# Altium footprint library Connector_Samtec_HLE_SMD.PcbLib: 290 footprints (part 12 of 24)
Each footprint in its own frame and in the unit in brackets; x right, y up, seen from the top. Pads: shape width x height; smd on the part's side, far side on the other; paste and mask are expansions set on the pad; w line width, h text height; cw(c..) or ccw(c..) is an arc to the next point about the centre after c.
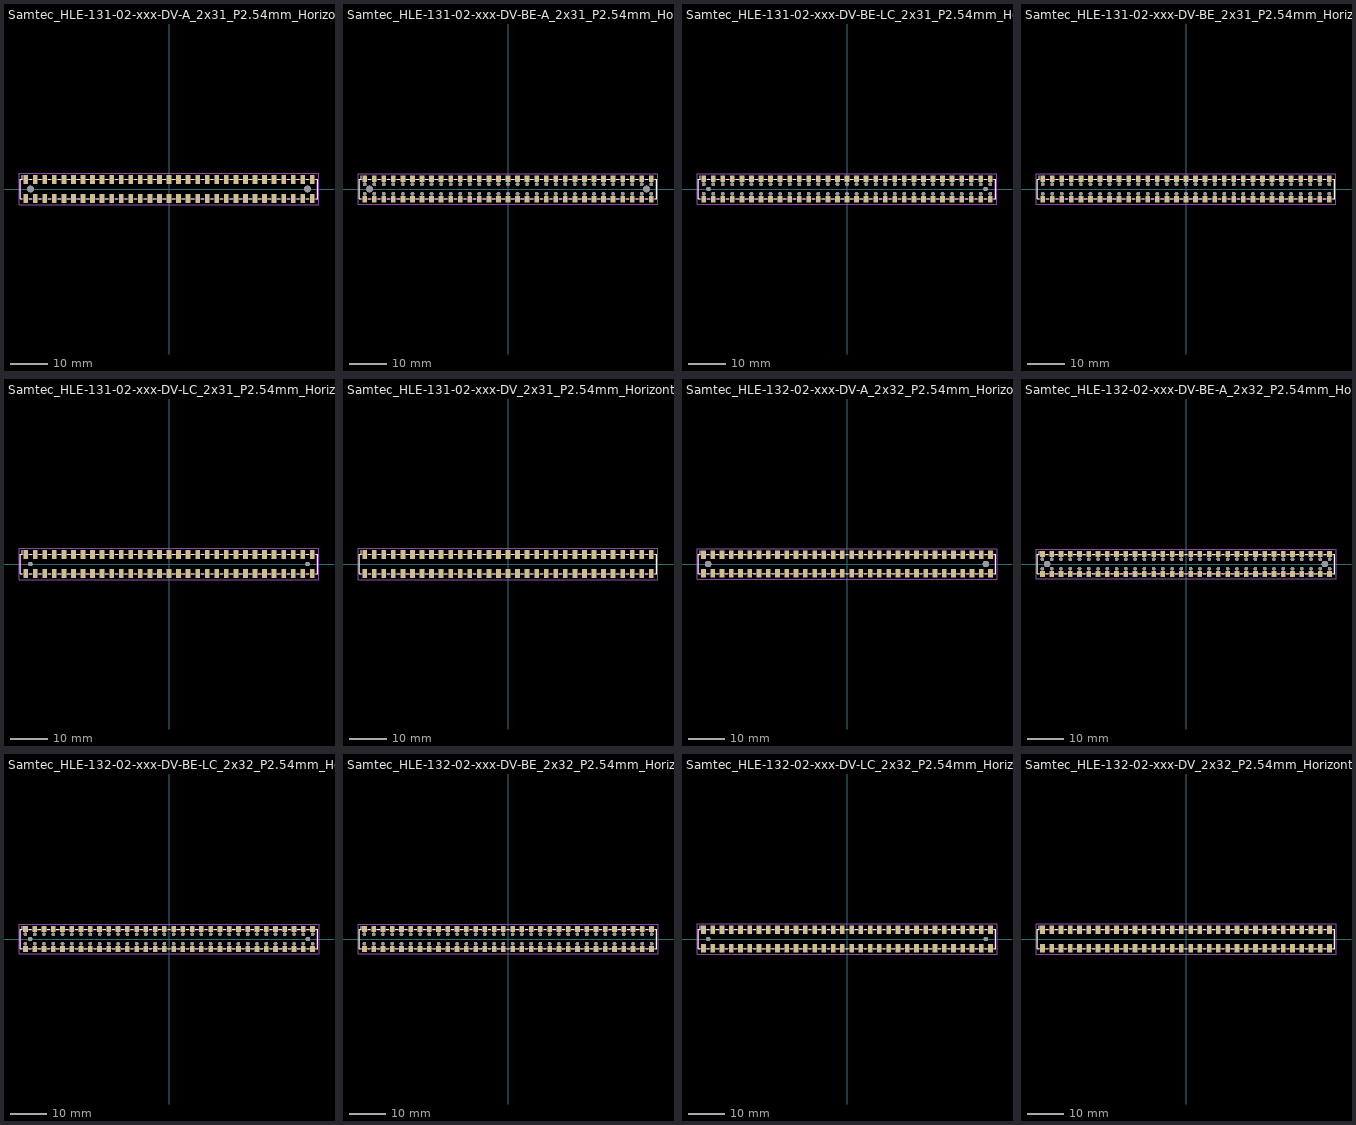
[diagram p11: the footprints below, top view; thin cyan lines are the x and y axes]

## Samtec_HLE-131-02-xxx-DV-A_2x31_P2.54mm_Horizontal [mm]
pads (64):
  rect 1.27x2.29 smd: 1(-38.1,2.525) 2(-38.1,-2.525) 3(-35.56,2.525) 4(-35.56,-2.525) 5(-33.02,2.525) 6(-33.02,-2.525) 7(-30.48,2.525) 8(-30.48,-2.525) 9(-27.94,2.525) 10(-27.94,-2.525) 11(-25.4,2.525) 12(-25.4,-2.525) 13(-22.86,2.525) 14(-22.86,-2.525) 15(-20.32,2.525) 16(-20.32,-2.525) 17(-17.78,2.525) 18(-17.78,-2.525) 19(-15.24,2.525) 20(-15.24,-2.525) 21(-12.7,2.525) 22(-12.7,-2.525) 23(-10.16,2.525) 24(-10.16,-2.525) 25(-7.62,2.525) 26(-7.62,-2.525) 27(-5.08,2.525) 28(-5.08,-2.525) 29(-2.54,2.525) 30(-2.54,-2.525) 31(0,2.525) 32(0,-2.525) 33(2.54,2.525) 34(2.54,-2.525) 35(5.08,2.525) 36(5.08,-2.525) 37(7.62,2.525) 38(7.62,-2.525) 39(10.16,2.525) 40(10.16,-2.525) 41(12.7,2.525) 42(12.7,-2.525) 43(15.24,2.525) 44(15.24,-2.525) 45(17.78,2.525) 46(17.78,-2.525) 47(20.32,2.525) 48(20.32,-2.525) 49(22.86,2.525) 50(22.86,-2.525) 51(25.4,2.525) 52(25.4,-2.525) 53(27.94,2.525) 54(27.94,-2.525) 55(30.48,2.525) 56(30.48,-2.525) 57(33.02,2.525) 58(33.02,-2.525) 59(35.56,2.525) 60(35.56,-2.525) 61(38.1,2.525) 62(38.1,-2.525)
  round 1.78 hole 1.78: Un1(-36.83,0) Un2(36.83,0)
F.SilkS:
  lines w0.254: -38.995,-2.65 -39.48,-2.65 -39.48,2.65 -38.995,2.65 -38.995,3.67 ; -37.205,-2.65 -36.455,-2.65 ; -37.205,2.65 -36.455,2.65 ; -34.665,-2.65 -33.915,-2.65 ; -34.665,2.65 -33.915,2.65 ; -32.125,-2.65 -31.375,-2.65 ; -32.125,2.65 -31.375,2.65 ; -29.585,-2.65 -28.835,-2.65 ; -29.585,2.65 -28.835,2.65 ; -27.045,-2.65 -26.295,-2.65 ; -27.045,2.65 -26.295,2.65 ; -24.505,-2.65 -23.755,-2.65 ; -24.505,2.65 -23.755,2.65 ; -21.965,-2.65 -21.215,-2.65 ; -21.965,2.65 -21.215,2.65 ; -19.425,-2.65 -18.675,-2.65 ; -19.425,2.65 -18.675,2.65 ; -16.885,-2.65 -16.135,-2.65 ; -16.885,2.65 -16.135,2.65 ; -14.345,-2.65 -13.595,-2.65 ; -14.345,2.65 -13.595,2.65 ; -11.805,-2.65 -11.055,-2.65 ; -11.805,2.65 -11.055,2.65 ; -9.265,-2.65 -8.515,-2.65 ; -9.265,2.65 -8.515,2.65 ; -6.725,-2.65 -5.975,-2.65 ; -6.725,2.65 -5.975,2.65 ; -4.185,-2.65 -3.435,-2.65 ; -4.185,2.65 -3.435,2.65 ; -1.645,-2.65 -0.895,-2.65 ; -1.645,2.65 -0.895,2.65 ; 0.895,-2.65 1.645,-2.65 ; 0.895,2.65 1.645,2.65 ; 3.435,-2.65 4.185,-2.65 ; 3.435,2.65 4.185,2.65 ; 5.975,-2.65 6.725,-2.65 ; 5.975,2.65 6.725,2.65 ; 8.515,-2.65 9.265,-2.65 ; 8.515,2.65 9.265,2.65 ; 11.055,-2.65 11.805,-2.65 ; 11.055,2.65 11.805,2.65 ; 13.595,-2.65 14.345,-2.65 ; 13.595,2.65 14.345,2.65 ; 16.135,-2.65 16.885,-2.65 ; 16.135,2.65 16.885,2.65 ; 18.675,-2.65 19.425,-2.65 ; 18.675,2.65 19.425,2.65 ; 21.215,-2.65 21.965,-2.65 ; 21.215,2.65 21.965,2.65 ; 23.755,-2.65 24.505,-2.65 ; 23.755,2.65 24.505,2.65 ; 26.295,-2.65 27.045,-2.65 ; 26.295,2.65 27.045,2.65 ; 28.835,-2.65 29.585,-2.65 ; 28.835,2.65 29.585,2.65 ; 31.375,-2.65 32.125,-2.65 ; 31.375,2.65 32.125,2.65 ; 33.915,-2.65 34.665,-2.65 ; 33.915,2.65 34.665,2.65 ; 36.455,-2.65 37.205,-2.65 ; 36.455,2.65 37.205,2.65 ; 38.995,-2.65 39.48,-2.65 39.48,2.65 38.995,2.65
Top Assembly:
  lines w0.254: -38.6,2.54 -38.1,1.833 -37.6,2.54 ; -39.37,-2.54 39.37,-2.54 39.37,2.54 -39.37,2.54 -39.37,-2.54
  text "'.Designator'" at -4.047,-2.68 h1
Top Courtyard:
  lines w0.254: -39.87,-4.17 39.87,-4.17 39.87,4.17 -39.87,4.17 -39.87,-4.17
Top Designator:
  text ".Designator" at -7.618,-0.508 h1.52

## Samtec_HLE-131-02-xxx-DV-BE-A_2x31_P2.54mm_Horizontal [mm]
pads (126):
  rect 1.27x1.68 smd: 1(-38.1,2.72) 2(-38.1,-2.72) 3(-35.56,2.72) 4(-35.56,-2.72) 5(-33.02,2.72) 6(-33.02,-2.72) 7(-30.48,2.72) 8(-30.48,-2.72) 9(-27.94,2.72) 10(-27.94,-2.72) 11(-25.4,2.72) 12(-25.4,-2.72) 13(-22.86,2.72) 14(-22.86,-2.72) 15(-20.32,2.72) 16(-20.32,-2.72) 17(-17.78,2.72) 18(-17.78,-2.72) 19(-15.24,2.72) 20(-15.24,-2.72) 21(-12.7,2.72) 22(-12.7,-2.72) 23(-10.16,2.72) 24(-10.16,-2.72) 25(-7.62,2.72) 26(-7.62,-2.72) 27(-5.08,2.72) 28(-5.08,-2.72) 29(-2.54,2.72) 30(-2.54,-2.72) 31(0,2.72) 32(0,-2.72) 33(2.54,2.72) 34(2.54,-2.72) 35(5.08,2.72) 36(5.08,-2.72) 37(7.62,2.72) 38(7.62,-2.72) 39(10.16,2.72) 40(10.16,-2.72) 41(12.7,2.72) 42(12.7,-2.72) 43(15.24,2.72) 44(15.24,-2.72) 45(17.78,2.72) 46(17.78,-2.72) 47(20.32,2.72) 48(20.32,-2.72) 49(22.86,2.72) 50(22.86,-2.72) 51(25.4,2.72) 52(25.4,-2.72) 53(27.94,2.72) 54(27.94,-2.72) 55(30.48,2.72) 56(30.48,-2.72) 57(33.02,2.72) 58(33.02,-2.72) 59(35.56,2.72) 60(35.56,-2.72) 61(38.1,2.72) 62(38.1,-2.72)
  round 0.97 hole 0.97: Un1(-38.1,1.27) Un2(-38.1,-1.27) Un4(-35.56,1.27) Un5(-35.56,-1.27) Un6(-33.02,1.27) Un7(-33.02,-1.27) Un8(-30.48,1.27) Un9(-30.48,-1.27) Un10(-27.94,1.27) Un11(-27.94,-1.27) Un12(-25.4,1.27) Un13(-25.4,-1.27) Un14(-22.86,1.27) Un15(-22.86,-1.27) Un16(-20.32,1.27) Un17(-20.32,-1.27) Un18(-17.78,1.27) Un19(-17.78,-1.27) Un20(-15.24,1.27) Un21(-15.24,-1.27) Un22(-12.7,1.27) Un23(-12.7,-1.27) Un24(-10.16,1.27) Un25(-10.16,-1.27) Un26(-7.62,1.27) Un27(-7.62,-1.27) Un28(-5.08,1.27) Un29(-5.08,-1.27) Un30(-2.54,1.27) Un31(-2.54,-1.27) Un32(0,1.27) Un33(0,-1.27) Un34(2.54,1.27) Un35(2.54,-1.27) Un36(5.08,1.27) Un37(5.08,-1.27) Un38(7.62,1.27) Un39(7.62,-1.27) Un40(10.16,1.27) Un41(10.16,-1.27) Un42(12.7,1.27) Un43(12.7,-1.27) Un44(15.24,1.27) Un45(15.24,-1.27) Un46(17.78,1.27) Un47(17.78,-1.27) Un48(20.32,1.27) Un49(20.32,-1.27) Un50(22.86,1.27) Un51(22.86,-1.27) Un52(25.4,1.27) Un53(25.4,-1.27) Un54(27.94,1.27) Un55(27.94,-1.27) Un56(30.48,1.27) Un57(30.48,-1.27) Un58(33.02,1.27) Un59(33.02,-1.27) Un60(35.56,1.27) Un61(35.56,-1.27) Un63(38.1,1.27) Un64(38.1,-1.27)
  round 1.78 hole 1.78: Un3(-36.83,0) Un62(36.83,0)
F.SilkS:
  lines w0.254: -38.995,-2.65 -39.48,-2.65 -39.48,2.65 -38.995,2.65 -38.995,3.56 ; -37.205,-2.65 -36.455,-2.65 ; -37.205,2.65 -36.455,2.65 ; -34.665,-2.65 -33.915,-2.65 ; -34.665,2.65 -33.915,2.65 ; -32.125,-2.65 -31.375,-2.65 ; -32.125,2.65 -31.375,2.65 ; -29.585,-2.65 -28.835,-2.65 ; -29.585,2.65 -28.835,2.65 ; -27.045,-2.65 -26.295,-2.65 ; -27.045,2.65 -26.295,2.65 ; -24.505,-2.65 -23.755,-2.65 ; -24.505,2.65 -23.755,2.65 ; -21.965,-2.65 -21.215,-2.65 ; -21.965,2.65 -21.215,2.65 ; -19.425,-2.65 -18.675,-2.65 ; -19.425,2.65 -18.675,2.65 ; -16.885,-2.65 -16.135,-2.65 ; -16.885,2.65 -16.135,2.65 ; -14.345,-2.65 -13.595,-2.65 ; -14.345,2.65 -13.595,2.65 ; -11.805,-2.65 -11.055,-2.65 ; -11.805,2.65 -11.055,2.65 ; -9.265,-2.65 -8.515,-2.65 ; -9.265,2.65 -8.515,2.65 ; -6.725,-2.65 -5.975,-2.65 ; -6.725,2.65 -5.975,2.65 ; -4.185,-2.65 -3.435,-2.65 ; -4.185,2.65 -3.435,2.65 ; -1.645,-2.65 -0.895,-2.65 ; -1.645,2.65 -0.895,2.65 ; 0.895,-2.65 1.645,-2.65 ; 0.895,2.65 1.645,2.65 ; 3.435,-2.65 4.185,-2.65 ; 3.435,2.65 4.185,2.65 ; 5.975,-2.65 6.725,-2.65 ; 5.975,2.65 6.725,2.65 ; 8.515,-2.65 9.265,-2.65 ; 8.515,2.65 9.265,2.65 ; 11.055,-2.65 11.805,-2.65 ; 11.055,2.65 11.805,2.65 ; 13.595,-2.65 14.345,-2.65 ; 13.595,2.65 14.345,2.65 ; 16.135,-2.65 16.885,-2.65 ; 16.135,2.65 16.885,2.65 ; 18.675,-2.65 19.425,-2.65 ; 18.675,2.65 19.425,2.65 ; 21.215,-2.65 21.965,-2.65 ; 21.215,2.65 21.965,2.65 ; 23.755,-2.65 24.505,-2.65 ; 23.755,2.65 24.505,2.65 ; 26.295,-2.65 27.045,-2.65 ; 26.295,2.65 27.045,2.65 ; 28.835,-2.65 29.585,-2.65 ; 28.835,2.65 29.585,2.65 ; 31.375,-2.65 32.125,-2.65 ; 31.375,2.65 32.125,2.65 ; 33.915,-2.65 34.665,-2.65 ; 33.915,2.65 34.665,2.65 ; 36.455,-2.65 37.205,-2.65 ; 36.455,2.65 37.205,2.65 ; 38.995,-2.65 39.48,-2.65 39.48,2.65 38.995,2.65
Top Assembly:
  lines w0.254: -38.6,2.54 -38.1,1.833 -37.6,2.54 ; -39.37,-2.54 39.37,-2.54 39.37,2.54 -39.37,2.54 -39.37,-2.54
  text "'.Designator'" at -4.047,-2.68 h1
Top Courtyard:
  lines w0.254: -39.87,-4.07 39.87,-4.07 39.87,4.07 -39.87,4.07 -39.87,-4.07
Top Designator:
  text ".Designator" at -7.618,-0.508 h1.52

## Samtec_HLE-131-02-xxx-DV-BE-LC_2x31_P2.54mm_Horizontal [mm]
pads (126):
  rect 1.27x1.68 smd: 1(-38.1,2.72) 2(-38.1,-2.72) 3(-35.56,2.72) 4(-35.56,-2.72) 5(-33.02,2.72) 6(-33.02,-2.72) 7(-30.48,2.72) 8(-30.48,-2.72) 9(-27.94,2.72) 10(-27.94,-2.72) 11(-25.4,2.72) 12(-25.4,-2.72) 13(-22.86,2.72) 14(-22.86,-2.72) 15(-20.32,2.72) 16(-20.32,-2.72) 17(-17.78,2.72) 18(-17.78,-2.72) 19(-15.24,2.72) 20(-15.24,-2.72) 21(-12.7,2.72) 22(-12.7,-2.72) 23(-10.16,2.72) 24(-10.16,-2.72) 25(-7.62,2.72) 26(-7.62,-2.72) 27(-5.08,2.72) 28(-5.08,-2.72) 29(-2.54,2.72) 30(-2.54,-2.72) 31(0,2.72) 32(0,-2.72) 33(2.54,2.72) 34(2.54,-2.72) 35(5.08,2.72) 36(5.08,-2.72) 37(7.62,2.72) 38(7.62,-2.72) 39(10.16,2.72) 40(10.16,-2.72) 41(12.7,2.72) 42(12.7,-2.72) 43(15.24,2.72) 44(15.24,-2.72) 45(17.78,2.72) 46(17.78,-2.72) 47(20.32,2.72) 48(20.32,-2.72) 49(22.86,2.72) 50(22.86,-2.72) 51(25.4,2.72) 52(25.4,-2.72) 53(27.94,2.72) 54(27.94,-2.72) 55(30.48,2.72) 56(30.48,-2.72) 57(33.02,2.72) 58(33.02,-2.72) 59(35.56,2.72) 60(35.56,-2.72) 61(38.1,2.72) 62(38.1,-2.72)
  round 0.97 hole 0.97: Un1(-38.1,1.27) Un2(-38.1,-1.27) Un4(-35.56,1.27) Un5(-35.56,-1.27) Un6(-33.02,1.27) Un7(-33.02,-1.27) Un8(-30.48,1.27) Un9(-30.48,-1.27) Un10(-27.94,1.27) Un11(-27.94,-1.27) Un12(-25.4,1.27) Un13(-25.4,-1.27) Un14(-22.86,1.27) Un15(-22.86,-1.27) Un16(-20.32,1.27) Un17(-20.32,-1.27) Un18(-17.78,1.27) Un19(-17.78,-1.27) Un20(-15.24,1.27) Un21(-15.24,-1.27) Un22(-12.7,1.27) Un23(-12.7,-1.27) Un24(-10.16,1.27) Un25(-10.16,-1.27) Un26(-7.62,1.27) Un27(-7.62,-1.27) Un28(-5.08,1.27) Un29(-5.08,-1.27) Un30(-2.54,1.27) Un31(-2.54,-1.27) Un32(0,1.27) Un33(0,-1.27) Un34(2.54,1.27) Un35(2.54,-1.27) Un36(5.08,1.27) Un37(5.08,-1.27) Un38(7.62,1.27) Un39(7.62,-1.27) Un40(10.16,1.27) Un41(10.16,-1.27) Un42(12.7,1.27) Un43(12.7,-1.27) Un44(15.24,1.27) Un45(15.24,-1.27) Un46(17.78,1.27) Un47(17.78,-1.27) Un48(20.32,1.27) Un49(20.32,-1.27) Un50(22.86,1.27) Un51(22.86,-1.27) Un52(25.4,1.27) Un53(25.4,-1.27) Un54(27.94,1.27) Un55(27.94,-1.27) Un56(30.48,1.27) Un57(30.48,-1.27) Un58(33.02,1.27) Un59(33.02,-1.27) Un60(35.56,1.27) Un61(35.56,-1.27) Un63(38.1,1.27) Un64(38.1,-1.27)
  round 1.19 hole 1.19: Un3(-36.83,0) Un62(36.83,0)
F.SilkS:
  lines w0.254: -38.995,-2.65 -39.48,-2.65 -39.48,2.65 -38.995,2.65 -38.995,3.56 ; -37.205,-2.65 -36.455,-2.65 ; -37.205,2.65 -36.455,2.65 ; -34.665,-2.65 -33.915,-2.65 ; -34.665,2.65 -33.915,2.65 ; -32.125,-2.65 -31.375,-2.65 ; -32.125,2.65 -31.375,2.65 ; -29.585,-2.65 -28.835,-2.65 ; -29.585,2.65 -28.835,2.65 ; -27.045,-2.65 -26.295,-2.65 ; -27.045,2.65 -26.295,2.65 ; -24.505,-2.65 -23.755,-2.65 ; -24.505,2.65 -23.755,2.65 ; -21.965,-2.65 -21.215,-2.65 ; -21.965,2.65 -21.215,2.65 ; -19.425,-2.65 -18.675,-2.65 ; -19.425,2.65 -18.675,2.65 ; -16.885,-2.65 -16.135,-2.65 ; -16.885,2.65 -16.135,2.65 ; -14.345,-2.65 -13.595,-2.65 ; -14.345,2.65 -13.595,2.65 ; -11.805,-2.65 -11.055,-2.65 ; -11.805,2.65 -11.055,2.65 ; -9.265,-2.65 -8.515,-2.65 ; -9.265,2.65 -8.515,2.65 ; -6.725,-2.65 -5.975,-2.65 ; -6.725,2.65 -5.975,2.65 ; -4.185,-2.65 -3.435,-2.65 ; -4.185,2.65 -3.435,2.65 ; -1.645,-2.65 -0.895,-2.65 ; -1.645,2.65 -0.895,2.65 ; 0.895,-2.65 1.645,-2.65 ; 0.895,2.65 1.645,2.65 ; 3.435,-2.65 4.185,-2.65 ; 3.435,2.65 4.185,2.65 ; 5.975,-2.65 6.725,-2.65 ; 5.975,2.65 6.725,2.65 ; 8.515,-2.65 9.265,-2.65 ; 8.515,2.65 9.265,2.65 ; 11.055,-2.65 11.805,-2.65 ; 11.055,2.65 11.805,2.65 ; 13.595,-2.65 14.345,-2.65 ; 13.595,2.65 14.345,2.65 ; 16.135,-2.65 16.885,-2.65 ; 16.135,2.65 16.885,2.65 ; 18.675,-2.65 19.425,-2.65 ; 18.675,2.65 19.425,2.65 ; 21.215,-2.65 21.965,-2.65 ; 21.215,2.65 21.965,2.65 ; 23.755,-2.65 24.505,-2.65 ; 23.755,2.65 24.505,2.65 ; 26.295,-2.65 27.045,-2.65 ; 26.295,2.65 27.045,2.65 ; 28.835,-2.65 29.585,-2.65 ; 28.835,2.65 29.585,2.65 ; 31.375,-2.65 32.125,-2.65 ; 31.375,2.65 32.125,2.65 ; 33.915,-2.65 34.665,-2.65 ; 33.915,2.65 34.665,2.65 ; 36.455,-2.65 37.205,-2.65 ; 36.455,2.65 37.205,2.65 ; 38.995,-2.65 39.48,-2.65 39.48,2.65 38.995,2.65
Top Assembly:
  lines w0.254: -38.6,2.54 -38.1,1.833 -37.6,2.54 ; -39.37,-2.54 39.37,-2.54 39.37,2.54 -39.37,2.54 -39.37,-2.54
  text "'.Designator'" at -4.047,-2.68 h1
Top Courtyard:
  lines w0.254: -39.87,-4.07 39.87,-4.07 39.87,4.07 -39.87,4.07 -39.87,-4.07
Top Designator:
  text ".Designator" at -7.618,-0.508 h1.52

## Samtec_HLE-131-02-xxx-DV-BE_2x31_P2.54mm_Horizontal [mm]
pads (124):
  rect 1.27x1.68 smd: 1(-38.1,2.72) 2(-38.1,-2.72) 3(-35.56,2.72) 4(-35.56,-2.72) 5(-33.02,2.72) 6(-33.02,-2.72) 7(-30.48,2.72) 8(-30.48,-2.72) 9(-27.94,2.72) 10(-27.94,-2.72) 11(-25.4,2.72) 12(-25.4,-2.72) 13(-22.86,2.72) 14(-22.86,-2.72) 15(-20.32,2.72) 16(-20.32,-2.72) 17(-17.78,2.72) 18(-17.78,-2.72) 19(-15.24,2.72) 20(-15.24,-2.72) 21(-12.7,2.72) 22(-12.7,-2.72) 23(-10.16,2.72) 24(-10.16,-2.72) 25(-7.62,2.72) 26(-7.62,-2.72) 27(-5.08,2.72) 28(-5.08,-2.72) 29(-2.54,2.72) 30(-2.54,-2.72) 31(0,2.72) 32(0,-2.72) 33(2.54,2.72) 34(2.54,-2.72) 35(5.08,2.72) 36(5.08,-2.72) 37(7.62,2.72) 38(7.62,-2.72) 39(10.16,2.72) 40(10.16,-2.72) 41(12.7,2.72) 42(12.7,-2.72) 43(15.24,2.72) 44(15.24,-2.72) 45(17.78,2.72) 46(17.78,-2.72) 47(20.32,2.72) 48(20.32,-2.72) 49(22.86,2.72) 50(22.86,-2.72) 51(25.4,2.72) 52(25.4,-2.72) 53(27.94,2.72) 54(27.94,-2.72) 55(30.48,2.72) 56(30.48,-2.72) 57(33.02,2.72) 58(33.02,-2.72) 59(35.56,2.72) 60(35.56,-2.72) 61(38.1,2.72) 62(38.1,-2.72)
  round 0.97 hole 0.97: Un1(-38.1,1.27) Un2(-38.1,-1.27) Un3(-35.56,1.27) Un4(-35.56,-1.27) Un5(-33.02,1.27) Un6(-33.02,-1.27) Un7(-30.48,1.27) Un8(-30.48,-1.27) Un9(-27.94,1.27) Un10(-27.94,-1.27) Un11(-25.4,1.27) Un12(-25.4,-1.27) Un13(-22.86,1.27) Un14(-22.86,-1.27) Un15(-20.32,1.27) Un16(-20.32,-1.27) Un17(-17.78,1.27) Un18(-17.78,-1.27) Un19(-15.24,1.27) Un20(-15.24,-1.27) Un21(-12.7,1.27) Un22(-12.7,-1.27) Un23(-10.16,1.27) Un24(-10.16,-1.27) Un25(-7.62,1.27) Un26(-7.62,-1.27) Un27(-5.08,1.27) Un28(-5.08,-1.27) Un29(-2.54,1.27) Un30(-2.54,-1.27) Un31(0,1.27) Un32(0,-1.27) Un33(2.54,1.27) Un34(2.54,-1.27) Un35(5.08,1.27) Un36(5.08,-1.27) Un37(7.62,1.27) Un38(7.62,-1.27) Un39(10.16,1.27) Un40(10.16,-1.27) Un41(12.7,1.27) Un42(12.7,-1.27) Un43(15.24,1.27) Un44(15.24,-1.27) Un45(17.78,1.27) Un46(17.78,-1.27) Un47(20.32,1.27) Un48(20.32,-1.27) Un49(22.86,1.27) Un50(22.86,-1.27) Un51(25.4,1.27) Un52(25.4,-1.27) Un53(27.94,1.27) Un54(27.94,-1.27) Un55(30.48,1.27) Un56(30.48,-1.27) Un57(33.02,1.27) Un58(33.02,-1.27) Un59(35.56,1.27) Un60(35.56,-1.27) Un61(38.1,1.27) Un62(38.1,-1.27)
F.SilkS:
  lines w0.254: -38.995,-2.65 -39.48,-2.65 -39.48,2.65 -38.995,2.65 -38.995,3.56 ; -37.205,-2.65 -36.455,-2.65 ; -37.205,2.65 -36.455,2.65 ; -34.665,-2.65 -33.915,-2.65 ; -34.665,2.65 -33.915,2.65 ; -32.125,-2.65 -31.375,-2.65 ; -32.125,2.65 -31.375,2.65 ; -29.585,-2.65 -28.835,-2.65 ; -29.585,2.65 -28.835,2.65 ; -27.045,-2.65 -26.295,-2.65 ; -27.045,2.65 -26.295,2.65 ; -24.505,-2.65 -23.755,-2.65 ; -24.505,2.65 -23.755,2.65 ; -21.965,-2.65 -21.215,-2.65 ; -21.965,2.65 -21.215,2.65 ; -19.425,-2.65 -18.675,-2.65 ; -19.425,2.65 -18.675,2.65 ; -16.885,-2.65 -16.135,-2.65 ; -16.885,2.65 -16.135,2.65 ; -14.345,-2.65 -13.595,-2.65 ; -14.345,2.65 -13.595,2.65 ; -11.805,-2.65 -11.055,-2.65 ; -11.805,2.65 -11.055,2.65 ; -9.265,-2.65 -8.515,-2.65 ; -9.265,2.65 -8.515,2.65 ; -6.725,-2.65 -5.975,-2.65 ; -6.725,2.65 -5.975,2.65 ; -4.185,-2.65 -3.435,-2.65 ; -4.185,2.65 -3.435,2.65 ; -1.645,-2.65 -0.895,-2.65 ; -1.645,2.65 -0.895,2.65 ; 0.895,-2.65 1.645,-2.65 ; 0.895,2.65 1.645,2.65 ; 3.435,-2.65 4.185,-2.65 ; 3.435,2.65 4.185,2.65 ; 5.975,-2.65 6.725,-2.65 ; 5.975,2.65 6.725,2.65 ; 8.515,-2.65 9.265,-2.65 ; 8.515,2.65 9.265,2.65 ; 11.055,-2.65 11.805,-2.65 ; 11.055,2.65 11.805,2.65 ; 13.595,-2.65 14.345,-2.65 ; 13.595,2.65 14.345,2.65 ; 16.135,-2.65 16.885,-2.65 ; 16.135,2.65 16.885,2.65 ; 18.675,-2.65 19.425,-2.65 ; 18.675,2.65 19.425,2.65 ; 21.215,-2.65 21.965,-2.65 ; 21.215,2.65 21.965,2.65 ; 23.755,-2.65 24.505,-2.65 ; 23.755,2.65 24.505,2.65 ; 26.295,-2.65 27.045,-2.65 ; 26.295,2.65 27.045,2.65 ; 28.835,-2.65 29.585,-2.65 ; 28.835,2.65 29.585,2.65 ; 31.375,-2.65 32.125,-2.65 ; 31.375,2.65 32.125,2.65 ; 33.915,-2.65 34.665,-2.65 ; 33.915,2.65 34.665,2.65 ; 36.455,-2.65 37.205,-2.65 ; 36.455,2.65 37.205,2.65 ; 38.995,-2.65 39.48,-2.65 39.48,2.65 38.995,2.65
Top Assembly:
  lines w0.254: -38.6,2.54 -38.1,1.833 -37.6,2.54 ; -39.37,-2.54 39.37,-2.54 39.37,2.54 -39.37,2.54 -39.37,-2.54
  text "'.Designator'" at -4.047,-2.68 h1
Top Courtyard:
  lines w0.254: -39.87,-4.07 39.87,-4.07 39.87,4.07 -39.87,4.07 -39.87,-4.07
Top Designator:
  text ".Designator" at -7.618,-0.508 h1.52

## Samtec_HLE-131-02-xxx-DV-LC_2x31_P2.54mm_Horizontal [mm]
pads (64):
  rect 1.27x2.29 smd: 1(-38.1,2.525) 2(-38.1,-2.525) 3(-35.56,2.525) 4(-35.56,-2.525) 5(-33.02,2.525) 6(-33.02,-2.525) 7(-30.48,2.525) 8(-30.48,-2.525) 9(-27.94,2.525) 10(-27.94,-2.525) 11(-25.4,2.525) 12(-25.4,-2.525) 13(-22.86,2.525) 14(-22.86,-2.525) 15(-20.32,2.525) 16(-20.32,-2.525) 17(-17.78,2.525) 18(-17.78,-2.525) 19(-15.24,2.525) 20(-15.24,-2.525) 21(-12.7,2.525) 22(-12.7,-2.525) 23(-10.16,2.525) 24(-10.16,-2.525) 25(-7.62,2.525) 26(-7.62,-2.525) 27(-5.08,2.525) 28(-5.08,-2.525) 29(-2.54,2.525) 30(-2.54,-2.525) 31(0,2.525) 32(0,-2.525) 33(2.54,2.525) 34(2.54,-2.525) 35(5.08,2.525) 36(5.08,-2.525) 37(7.62,2.525) 38(7.62,-2.525) 39(10.16,2.525) 40(10.16,-2.525) 41(12.7,2.525) 42(12.7,-2.525) 43(15.24,2.525) 44(15.24,-2.525) 45(17.78,2.525) 46(17.78,-2.525) 47(20.32,2.525) 48(20.32,-2.525) 49(22.86,2.525) 50(22.86,-2.525) 51(25.4,2.525) 52(25.4,-2.525) 53(27.94,2.525) 54(27.94,-2.525) 55(30.48,2.525) 56(30.48,-2.525) 57(33.02,2.525) 58(33.02,-2.525) 59(35.56,2.525) 60(35.56,-2.525) 61(38.1,2.525) 62(38.1,-2.525)
  round 1.19 hole 1.19: Un1(-36.83,0) Un2(36.83,0)
F.SilkS:
  lines w0.254: -38.995,-2.65 -39.48,-2.65 -39.48,2.65 -38.995,2.65 -38.995,3.67 ; -37.205,-2.65 -36.455,-2.65 ; -37.205,2.65 -36.455,2.65 ; -34.665,-2.65 -33.915,-2.65 ; -34.665,2.65 -33.915,2.65 ; -32.125,-2.65 -31.375,-2.65 ; -32.125,2.65 -31.375,2.65 ; -29.585,-2.65 -28.835,-2.65 ; -29.585,2.65 -28.835,2.65 ; -27.045,-2.65 -26.295,-2.65 ; -27.045,2.65 -26.295,2.65 ; -24.505,-2.65 -23.755,-2.65 ; -24.505,2.65 -23.755,2.65 ; -21.965,-2.65 -21.215,-2.65 ; -21.965,2.65 -21.215,2.65 ; -19.425,-2.65 -18.675,-2.65 ; -19.425,2.65 -18.675,2.65 ; -16.885,-2.65 -16.135,-2.65 ; -16.885,2.65 -16.135,2.65 ; -14.345,-2.65 -13.595,-2.65 ; -14.345,2.65 -13.595,2.65 ; -11.805,-2.65 -11.055,-2.65 ; -11.805,2.65 -11.055,2.65 ; -9.265,-2.65 -8.515,-2.65 ; -9.265,2.65 -8.515,2.65 ; -6.725,-2.65 -5.975,-2.65 ; -6.725,2.65 -5.975,2.65 ; -4.185,-2.65 -3.435,-2.65 ; -4.185,2.65 -3.435,2.65 ; -1.645,-2.65 -0.895,-2.65 ; -1.645,2.65 -0.895,2.65 ; 0.895,-2.65 1.645,-2.65 ; 0.895,2.65 1.645,2.65 ; 3.435,-2.65 4.185,-2.65 ; 3.435,2.65 4.185,2.65 ; 5.975,-2.65 6.725,-2.65 ; 5.975,2.65 6.725,2.65 ; 8.515,-2.65 9.265,-2.65 ; 8.515,2.65 9.265,2.65 ; 11.055,-2.65 11.805,-2.65 ; 11.055,2.65 11.805,2.65 ; 13.595,-2.65 14.345,-2.65 ; 13.595,2.65 14.345,2.65 ; 16.135,-2.65 16.885,-2.65 ; 16.135,2.65 16.885,2.65 ; 18.675,-2.65 19.425,-2.65 ; 18.675,2.65 19.425,2.65 ; 21.215,-2.65 21.965,-2.65 ; 21.215,2.65 21.965,2.65 ; 23.755,-2.65 24.505,-2.65 ; 23.755,2.65 24.505,2.65 ; 26.295,-2.65 27.045,-2.65 ; 26.295,2.65 27.045,2.65 ; 28.835,-2.65 29.585,-2.65 ; 28.835,2.65 29.585,2.65 ; 31.375,-2.65 32.125,-2.65 ; 31.375,2.65 32.125,2.65 ; 33.915,-2.65 34.665,-2.65 ; 33.915,2.65 34.665,2.65 ; 36.455,-2.65 37.205,-2.65 ; 36.455,2.65 37.205,2.65 ; 38.995,-2.65 39.48,-2.65 39.48,2.65 38.995,2.65
Top Assembly:
  lines w0.254: -38.6,2.54 -38.1,1.833 -37.6,2.54 ; -39.37,-2.54 39.37,-2.54 39.37,2.54 -39.37,2.54 -39.37,-2.54
  text "'.Designator'" at -4.047,-2.68 h1
Top Courtyard:
  lines w0.254: -39.87,-4.17 39.87,-4.17 39.87,4.17 -39.87,4.17 -39.87,-4.17
Top Designator:
  text ".Designator" at -7.618,-0.508 h1.52

## Samtec_HLE-131-02-xxx-DV_2x31_P2.54mm_Horizontal [mm]
pads (62):
  rect 1.27x2.29 smd: 1(-38.1,2.525) 2(-38.1,-2.525) 3(-35.56,2.525) 4(-35.56,-2.525) 5(-33.02,2.525) 6(-33.02,-2.525) 7(-30.48,2.525) 8(-30.48,-2.525) 9(-27.94,2.525) 10(-27.94,-2.525) 11(-25.4,2.525) 12(-25.4,-2.525) 13(-22.86,2.525) 14(-22.86,-2.525) 15(-20.32,2.525) 16(-20.32,-2.525) 17(-17.78,2.525) 18(-17.78,-2.525) 19(-15.24,2.525) 20(-15.24,-2.525) 21(-12.7,2.525) 22(-12.7,-2.525) 23(-10.16,2.525) 24(-10.16,-2.525) 25(-7.62,2.525) 26(-7.62,-2.525) 27(-5.08,2.525) 28(-5.08,-2.525) 29(-2.54,2.525) 30(-2.54,-2.525) 31(0,2.525) 32(0,-2.525) 33(2.54,2.525) 34(2.54,-2.525) 35(5.08,2.525) 36(5.08,-2.525) 37(7.62,2.525) 38(7.62,-2.525) 39(10.16,2.525) 40(10.16,-2.525) 41(12.7,2.525) 42(12.7,-2.525) 43(15.24,2.525) 44(15.24,-2.525) 45(17.78,2.525) 46(17.78,-2.525) 47(20.32,2.525) 48(20.32,-2.525) 49(22.86,2.525) 50(22.86,-2.525) 51(25.4,2.525) 52(25.4,-2.525) 53(27.94,2.525) 54(27.94,-2.525) 55(30.48,2.525) 56(30.48,-2.525) 57(33.02,2.525) 58(33.02,-2.525) 59(35.56,2.525) 60(35.56,-2.525) 61(38.1,2.525) 62(38.1,-2.525)
F.SilkS:
  lines w0.254: -38.995,-2.65 -39.48,-2.65 -39.48,2.65 -38.995,2.65 -38.995,3.67 ; -37.205,-2.65 -36.455,-2.65 ; -37.205,2.65 -36.455,2.65 ; -34.665,-2.65 -33.915,-2.65 ; -34.665,2.65 -33.915,2.65 ; -32.125,-2.65 -31.375,-2.65 ; -32.125,2.65 -31.375,2.65 ; -29.585,-2.65 -28.835,-2.65 ; -29.585,2.65 -28.835,2.65 ; -27.045,-2.65 -26.295,-2.65 ; -27.045,2.65 -26.295,2.65 ; -24.505,-2.65 -23.755,-2.65 ; -24.505,2.65 -23.755,2.65 ; -21.965,-2.65 -21.215,-2.65 ; -21.965,2.65 -21.215,2.65 ; -19.425,-2.65 -18.675,-2.65 ; -19.425,2.65 -18.675,2.65 ; -16.885,-2.65 -16.135,-2.65 ; -16.885,2.65 -16.135,2.65 ; -14.345,-2.65 -13.595,-2.65 ; -14.345,2.65 -13.595,2.65 ; -11.805,-2.65 -11.055,-2.65 ; -11.805,2.65 -11.055,2.65 ; -9.265,-2.65 -8.515,-2.65 ; -9.265,2.65 -8.515,2.65 ; -6.725,-2.65 -5.975,-2.65 ; -6.725,2.65 -5.975,2.65 ; -4.185,-2.65 -3.435,-2.65 ; -4.185,2.65 -3.435,2.65 ; -1.645,-2.65 -0.895,-2.65 ; -1.645,2.65 -0.895,2.65 ; 0.895,-2.65 1.645,-2.65 ; 0.895,2.65 1.645,2.65 ; 3.435,-2.65 4.185,-2.65 ; 3.435,2.65 4.185,2.65 ; 5.975,-2.65 6.725,-2.65 ; 5.975,2.65 6.725,2.65 ; 8.515,-2.65 9.265,-2.65 ; 8.515,2.65 9.265,2.65 ; 11.055,-2.65 11.805,-2.65 ; 11.055,2.65 11.805,2.65 ; 13.595,-2.65 14.345,-2.65 ; 13.595,2.65 14.345,2.65 ; 16.135,-2.65 16.885,-2.65 ; 16.135,2.65 16.885,2.65 ; 18.675,-2.65 19.425,-2.65 ; 18.675,2.65 19.425,2.65 ; 21.215,-2.65 21.965,-2.65 ; 21.215,2.65 21.965,2.65 ; 23.755,-2.65 24.505,-2.65 ; 23.755,2.65 24.505,2.65 ; 26.295,-2.65 27.045,-2.65 ; 26.295,2.65 27.045,2.65 ; 28.835,-2.65 29.585,-2.65 ; 28.835,2.65 29.585,2.65 ; 31.375,-2.65 32.125,-2.65 ; 31.375,2.65 32.125,2.65 ; 33.915,-2.65 34.665,-2.65 ; 33.915,2.65 34.665,2.65 ; 36.455,-2.65 37.205,-2.65 ; 36.455,2.65 37.205,2.65 ; 38.995,-2.65 39.48,-2.65 39.48,2.65 38.995,2.65
Top Assembly:
  lines w0.254: -38.6,2.54 -38.1,1.833 -37.6,2.54 ; -39.37,-2.54 39.37,-2.54 39.37,2.54 -39.37,2.54 -39.37,-2.54
  text "'.Designator'" at -4.047,-2.68 h1
Top Courtyard:
  lines w0.254: -39.87,-4.17 39.87,-4.17 39.87,4.17 -39.87,4.17 -39.87,-4.17
Top Designator:
  text ".Designator" at -7.618,-0.508 h1.52

## Samtec_HLE-132-02-xxx-DV-A_2x32_P2.54mm_Horizontal [mm]
pads (66):
  rect 1.27x2.29 smd: 1(-39.37,2.525) 2(-39.37,-2.525) 3(-36.83,2.525) 4(-36.83,-2.525) 5(-34.29,2.525) 6(-34.29,-2.525) 7(-31.75,2.525) 8(-31.75,-2.525) 9(-29.21,2.525) 10(-29.21,-2.525) 11(-26.67,2.525) 12(-26.67,-2.525) 13(-24.13,2.525) 14(-24.13,-2.525) 15(-21.59,2.525) 16(-21.59,-2.525) 17(-19.05,2.525) 18(-19.05,-2.525) 19(-16.51,2.525) 20(-16.51,-2.525) 21(-13.97,2.525) 22(-13.97,-2.525) 23(-11.43,2.525) 24(-11.43,-2.525) 25(-8.89,2.525) 26(-8.89,-2.525) 27(-6.35,2.525) 28(-6.35,-2.525) 29(-3.81,2.525) 30(-3.81,-2.525) 31(-1.27,2.525) 32(-1.27,-2.525) 33(1.27,2.525) 34(1.27,-2.525) 35(3.81,2.525) 36(3.81,-2.525) 37(6.35,2.525) 38(6.35,-2.525) 39(8.89,2.525) 40(8.89,-2.525) 41(11.43,2.525) 42(11.43,-2.525) 43(13.97,2.525) 44(13.97,-2.525) 45(16.51,2.525) 46(16.51,-2.525) 47(19.05,2.525) 48(19.05,-2.525) 49(21.59,2.525) 50(21.59,-2.525) 51(24.13,2.525) 52(24.13,-2.525) 53(26.67,2.525) 54(26.67,-2.525) 55(29.21,2.525) 56(29.21,-2.525) 57(31.75,2.525) 58(31.75,-2.525) 59(34.29,2.525) 60(34.29,-2.525) 61(36.83,2.525) 62(36.83,-2.525) 63(39.37,2.525) 64(39.37,-2.525)
  round 1.78 hole 1.78: Un1(-38.1,0) Un2(38.1,0)
F.SilkS:
  lines w0.254: -40.265,-2.65 -40.75,-2.65 -40.75,2.65 -40.265,2.65 -40.265,3.67 ; -38.475,-2.65 -37.725,-2.65 ; -38.475,2.65 -37.725,2.65 ; -35.935,-2.65 -35.185,-2.65 ; -35.935,2.65 -35.185,2.65 ; -33.395,-2.65 -32.645,-2.65 ; -33.395,2.65 -32.645,2.65 ; -30.855,-2.65 -30.105,-2.65 ; -30.855,2.65 -30.105,2.65 ; -28.315,-2.65 -27.565,-2.65 ; -28.315,2.65 -27.565,2.65 ; -25.775,-2.65 -25.025,-2.65 ; -25.775,2.65 -25.025,2.65 ; -23.235,-2.65 -22.485,-2.65 ; -23.235,2.65 -22.485,2.65 ; -20.695,-2.65 -19.945,-2.65 ; -20.695,2.65 -19.945,2.65 ; -18.155,-2.65 -17.405,-2.65 ; -18.155,2.65 -17.405,2.65 ; -15.615,-2.65 -14.865,-2.65 ; -15.615,2.65 -14.865,2.65 ; -13.075,-2.65 -12.325,-2.65 ; -13.075,2.65 -12.325,2.65 ; -10.535,-2.65 -9.785,-2.65 ; -10.535,2.65 -9.785,2.65 ; -7.995,-2.65 -7.245,-2.65 ; -7.995,2.65 -7.245,2.65 ; -5.455,-2.65 -4.705,-2.65 ; -5.455,2.65 -4.705,2.65 ; -2.915,-2.65 -2.165,-2.65 ; -2.915,2.65 -2.165,2.65 ; -0.375,-2.65 0.375,-2.65 ; -0.375,2.65 0.375,2.65 ; 2.165,-2.65 2.915,-2.65 ; 2.165,2.65 2.915,2.65 ; 4.705,-2.65 5.455,-2.65 ; 4.705,2.65 5.455,2.65 ; 7.245,-2.65 7.995,-2.65 ; 7.245,2.65 7.995,2.65 ; 9.785,-2.65 10.535,-2.65 ; 9.785,2.65 10.535,2.65 ; 12.325,-2.65 13.075,-2.65 ; 12.325,2.65 13.075,2.65 ; 14.865,-2.65 15.615,-2.65 ; 14.865,2.65 15.615,2.65 ; 17.405,-2.65 18.155,-2.65 ; 17.405,2.65 18.155,2.65 ; 19.945,-2.65 20.695,-2.65 ; 19.945,2.65 20.695,2.65 ; 22.485,-2.65 23.235,-2.65 ; 22.485,2.65 23.235,2.65 ; 25.025,-2.65 25.775,-2.65 ; 25.025,2.65 25.775,2.65 ; 27.565,-2.65 28.315,-2.65 ; 27.565,2.65 28.315,2.65 ; 30.105,-2.65 30.855,-2.65 ; 30.105,2.65 30.855,2.65 ; 32.645,-2.65 33.395,-2.65 ; 32.645,2.65 33.395,2.65 ; 35.185,-2.65 35.935,-2.65 ; 35.185,2.65 35.935,2.65 ; 37.725,-2.65 38.475,-2.65 ; 37.725,2.65 38.475,2.65 ; 40.265,-2.65 40.75,-2.65 40.75,2.65 40.265,2.65
Top Assembly:
  lines w0.254: -39.87,2.54 -39.37,1.833 -38.87,2.54 ; -40.64,-2.54 40.64,-2.54 40.64,2.54 -40.64,2.54 -40.64,-2.54
  text "'.Designator'" at -4.047,-2.68 h1
Top Courtyard:
  lines w0.254: -41.14,-4.17 41.14,-4.17 41.14,4.17 -41.14,4.17 -41.14,-4.17
Top Designator:
  text ".Designator" at -7.618,-0.508 h1.52

## Samtec_HLE-132-02-xxx-DV-BE-A_2x32_P2.54mm_Horizontal [mm]
pads (130):
  rect 1.27x1.68 smd: 1(-39.37,2.72) 2(-39.37,-2.72) 3(-36.83,2.72) 4(-36.83,-2.72) 5(-34.29,2.72) 6(-34.29,-2.72) 7(-31.75,2.72) 8(-31.75,-2.72) 9(-29.21,2.72) 10(-29.21,-2.72) 11(-26.67,2.72) 12(-26.67,-2.72) 13(-24.13,2.72) 14(-24.13,-2.72) 15(-21.59,2.72) 16(-21.59,-2.72) 17(-19.05,2.72) 18(-19.05,-2.72) 19(-16.51,2.72) 20(-16.51,-2.72) 21(-13.97,2.72) 22(-13.97,-2.72) 23(-11.43,2.72) 24(-11.43,-2.72) 25(-8.89,2.72) 26(-8.89,-2.72) 27(-6.35,2.72) 28(-6.35,-2.72) 29(-3.81,2.72) 30(-3.81,-2.72) 31(-1.27,2.72) 32(-1.27,-2.72) 33(1.27,2.72) 34(1.27,-2.72) 35(3.81,2.72) 36(3.81,-2.72) 37(6.35,2.72) 38(6.35,-2.72) 39(8.89,2.72) 40(8.89,-2.72) 41(11.43,2.72) 42(11.43,-2.72) 43(13.97,2.72) 44(13.97,-2.72) 45(16.51,2.72) 46(16.51,-2.72) 47(19.05,2.72) 48(19.05,-2.72) 49(21.59,2.72) 50(21.59,-2.72) 51(24.13,2.72) 52(24.13,-2.72) 53(26.67,2.72) 54(26.67,-2.72) 55(29.21,2.72) 56(29.21,-2.72) 57(31.75,2.72) 58(31.75,-2.72) 59(34.29,2.72) 60(34.29,-2.72) 61(36.83,2.72) 62(36.83,-2.72) 63(39.37,2.72) 64(39.37,-2.72)
  round 0.97 hole 0.97: Un1(-39.37,1.27) Un2(-39.37,-1.27) Un4(-36.83,1.27) Un5(-36.83,-1.27) Un6(-34.29,1.27) Un7(-34.29,-1.27) Un8(-31.75,1.27) Un9(-31.75,-1.27) Un10(-29.21,1.27) Un11(-29.21,-1.27) Un12(-26.67,1.27) Un13(-26.67,-1.27) Un14(-24.13,1.27) Un15(-24.13,-1.27) Un16(-21.59,1.27) Un17(-21.59,-1.27) Un18(-19.05,1.27) Un19(-19.05,-1.27) Un20(-16.51,1.27) Un21(-16.51,-1.27) Un22(-13.97,1.27) Un23(-13.97,-1.27) Un24(-11.43,1.27) Un25(-11.43,-1.27) Un26(-8.89,1.27) Un27(-8.89,-1.27) Un28(-6.35,1.27) Un29(-6.35,-1.27) Un30(-3.81,1.27) Un31(-3.81,-1.27) Un32(-1.27,1.27) Un33(-1.27,-1.27) Un34(1.27,1.27) Un35(1.27,-1.27) Un36(3.81,1.27) Un37(3.81,-1.27) Un38(6.35,1.27) Un39(6.35,-1.27) Un40(8.89,1.27) Un41(8.89,-1.27) Un42(11.43,1.27) Un43(11.43,-1.27) Un44(13.97,1.27) Un45(13.97,-1.27) Un46(16.51,1.27) Un47(16.51,-1.27) Un48(19.05,1.27) Un49(19.05,-1.27) Un50(21.59,1.27) Un51(21.59,-1.27) Un52(24.13,1.27) Un53(24.13,-1.27) Un54(26.67,1.27) Un55(26.67,-1.27) Un56(29.21,1.27) Un57(29.21,-1.27) Un58(31.75,1.27) Un59(31.75,-1.27) Un60(34.29,1.27) Un61(34.29,-1.27) Un62(36.83,1.27) Un63(36.83,-1.27) Un65(39.37,1.27) Un66(39.37,-1.27)
  round 1.78 hole 1.78: Un3(-38.1,0) Un64(38.1,0)
F.SilkS:
  lines w0.254: -40.265,-2.65 -40.75,-2.65 -40.75,2.65 -40.265,2.65 -40.265,3.56 ; -38.475,-2.65 -37.725,-2.65 ; -38.475,2.65 -37.725,2.65 ; -35.935,-2.65 -35.185,-2.65 ; -35.935,2.65 -35.185,2.65 ; -33.395,-2.65 -32.645,-2.65 ; -33.395,2.65 -32.645,2.65 ; -30.855,-2.65 -30.105,-2.65 ; -30.855,2.65 -30.105,2.65 ; -28.315,-2.65 -27.565,-2.65 ; -28.315,2.65 -27.565,2.65 ; -25.775,-2.65 -25.025,-2.65 ; -25.775,2.65 -25.025,2.65 ; -23.235,-2.65 -22.485,-2.65 ; -23.235,2.65 -22.485,2.65 ; -20.695,-2.65 -19.945,-2.65 ; -20.695,2.65 -19.945,2.65 ; -18.155,-2.65 -17.405,-2.65 ; -18.155,2.65 -17.405,2.65 ; -15.615,-2.65 -14.865,-2.65 ; -15.615,2.65 -14.865,2.65 ; -13.075,-2.65 -12.325,-2.65 ; -13.075,2.65 -12.325,2.65 ; -10.535,-2.65 -9.785,-2.65 ; -10.535,2.65 -9.785,2.65 ; -7.995,-2.65 -7.245,-2.65 ; -7.995,2.65 -7.245,2.65 ; -5.455,-2.65 -4.705,-2.65 ; -5.455,2.65 -4.705,2.65 ; -2.915,-2.65 -2.165,-2.65 ; -2.915,2.65 -2.165,2.65 ; -0.375,-2.65 0.375,-2.65 ; -0.375,2.65 0.375,2.65 ; 2.165,-2.65 2.915,-2.65 ; 2.165,2.65 2.915,2.65 ; 4.705,-2.65 5.455,-2.65 ; 4.705,2.65 5.455,2.65 ; 7.245,-2.65 7.995,-2.65 ; 7.245,2.65 7.995,2.65 ; 9.785,-2.65 10.535,-2.65 ; 9.785,2.65 10.535,2.65 ; 12.325,-2.65 13.075,-2.65 ; 12.325,2.65 13.075,2.65 ; 14.865,-2.65 15.615,-2.65 ; 14.865,2.65 15.615,2.65 ; 17.405,-2.65 18.155,-2.65 ; 17.405,2.65 18.155,2.65 ; 19.945,-2.65 20.695,-2.65 ; 19.945,2.65 20.695,2.65 ; 22.485,-2.65 23.235,-2.65 ; 22.485,2.65 23.235,2.65 ; 25.025,-2.65 25.775,-2.65 ; 25.025,2.65 25.775,2.65 ; 27.565,-2.65 28.315,-2.65 ; 27.565,2.65 28.315,2.65 ; 30.105,-2.65 30.855,-2.65 ; 30.105,2.65 30.855,2.65 ; 32.645,-2.65 33.395,-2.65 ; 32.645,2.65 33.395,2.65 ; 35.185,-2.65 35.935,-2.65 ; 35.185,2.65 35.935,2.65 ; 37.725,-2.65 38.475,-2.65 ; 37.725,2.65 38.475,2.65 ; 40.265,-2.65 40.75,-2.65 40.75,2.65 40.265,2.65
Top Assembly:
  lines w0.254: -39.87,2.54 -39.37,1.833 -38.87,2.54 ; -40.64,-2.54 40.64,-2.54 40.64,2.54 -40.64,2.54 -40.64,-2.54
  text "'.Designator'" at -4.047,-2.68 h1
Top Courtyard:
  lines w0.254: -41.14,-4.07 41.14,-4.07 41.14,4.07 -41.14,4.07 -41.14,-4.07
Top Designator:
  text ".Designator" at -7.618,-0.508 h1.52

## Samtec_HLE-132-02-xxx-DV-BE-LC_2x32_P2.54mm_Horizontal [mm]
pads (130):
  rect 1.27x1.68 smd: 1(-39.37,2.72) 2(-39.37,-2.72) 3(-36.83,2.72) 4(-36.83,-2.72) 5(-34.29,2.72) 6(-34.29,-2.72) 7(-31.75,2.72) 8(-31.75,-2.72) 9(-29.21,2.72) 10(-29.21,-2.72) 11(-26.67,2.72) 12(-26.67,-2.72) 13(-24.13,2.72) 14(-24.13,-2.72) 15(-21.59,2.72) 16(-21.59,-2.72) 17(-19.05,2.72) 18(-19.05,-2.72) 19(-16.51,2.72) 20(-16.51,-2.72) 21(-13.97,2.72) 22(-13.97,-2.72) 23(-11.43,2.72) 24(-11.43,-2.72) 25(-8.89,2.72) 26(-8.89,-2.72) 27(-6.35,2.72) 28(-6.35,-2.72) 29(-3.81,2.72) 30(-3.81,-2.72) 31(-1.27,2.72) 32(-1.27,-2.72) 33(1.27,2.72) 34(1.27,-2.72) 35(3.81,2.72) 36(3.81,-2.72) 37(6.35,2.72) 38(6.35,-2.72) 39(8.89,2.72) 40(8.89,-2.72) 41(11.43,2.72) 42(11.43,-2.72) 43(13.97,2.72) 44(13.97,-2.72) 45(16.51,2.72) 46(16.51,-2.72) 47(19.05,2.72) 48(19.05,-2.72) 49(21.59,2.72) 50(21.59,-2.72) 51(24.13,2.72) 52(24.13,-2.72) 53(26.67,2.72) 54(26.67,-2.72) 55(29.21,2.72) 56(29.21,-2.72) 57(31.75,2.72) 58(31.75,-2.72) 59(34.29,2.72) 60(34.29,-2.72) 61(36.83,2.72) 62(36.83,-2.72) 63(39.37,2.72) 64(39.37,-2.72)
  round 0.97 hole 0.97: Un1(-39.37,1.27) Un2(-39.37,-1.27) Un4(-36.83,1.27) Un5(-36.83,-1.27) Un6(-34.29,1.27) Un7(-34.29,-1.27) Un8(-31.75,1.27) Un9(-31.75,-1.27) Un10(-29.21,1.27) Un11(-29.21,-1.27) Un12(-26.67,1.27) Un13(-26.67,-1.27) Un14(-24.13,1.27) Un15(-24.13,-1.27) Un16(-21.59,1.27) Un17(-21.59,-1.27) Un18(-19.05,1.27) Un19(-19.05,-1.27) Un20(-16.51,1.27) Un21(-16.51,-1.27) Un22(-13.97,1.27) Un23(-13.97,-1.27) Un24(-11.43,1.27) Un25(-11.43,-1.27) Un26(-8.89,1.27) Un27(-8.89,-1.27) Un28(-6.35,1.27) Un29(-6.35,-1.27) Un30(-3.81,1.27) Un31(-3.81,-1.27) Un32(-1.27,1.27) Un33(-1.27,-1.27) Un34(1.27,1.27) Un35(1.27,-1.27) Un36(3.81,1.27) Un37(3.81,-1.27) Un38(6.35,1.27) Un39(6.35,-1.27) Un40(8.89,1.27) Un41(8.89,-1.27) Un42(11.43,1.27) Un43(11.43,-1.27) Un44(13.97,1.27) Un45(13.97,-1.27) Un46(16.51,1.27) Un47(16.51,-1.27) Un48(19.05,1.27) Un49(19.05,-1.27) Un50(21.59,1.27) Un51(21.59,-1.27) Un52(24.13,1.27) Un53(24.13,-1.27) Un54(26.67,1.27) Un55(26.67,-1.27) Un56(29.21,1.27) Un57(29.21,-1.27) Un58(31.75,1.27) Un59(31.75,-1.27) Un60(34.29,1.27) Un61(34.29,-1.27) Un62(36.83,1.27) Un63(36.83,-1.27) Un65(39.37,1.27) Un66(39.37,-1.27)
  round 1.19 hole 1.19: Un3(-38.1,0) Un64(38.1,0)
F.SilkS:
  lines w0.254: -40.265,-2.65 -40.75,-2.65 -40.75,2.65 -40.265,2.65 -40.265,3.56 ; -38.475,-2.65 -37.725,-2.65 ; -38.475,2.65 -37.725,2.65 ; -35.935,-2.65 -35.185,-2.65 ; -35.935,2.65 -35.185,2.65 ; -33.395,-2.65 -32.645,-2.65 ; -33.395,2.65 -32.645,2.65 ; -30.855,-2.65 -30.105,-2.65 ; -30.855,2.65 -30.105,2.65 ; -28.315,-2.65 -27.565,-2.65 ; -28.315,2.65 -27.565,2.65 ; -25.775,-2.65 -25.025,-2.65 ; -25.775,2.65 -25.025,2.65 ; -23.235,-2.65 -22.485,-2.65 ; -23.235,2.65 -22.485,2.65 ; -20.695,-2.65 -19.945,-2.65 ; -20.695,2.65 -19.945,2.65 ; -18.155,-2.65 -17.405,-2.65 ; -18.155,2.65 -17.405,2.65 ; -15.615,-2.65 -14.865,-2.65 ; -15.615,2.65 -14.865,2.65 ; -13.075,-2.65 -12.325,-2.65 ; -13.075,2.65 -12.325,2.65 ; -10.535,-2.65 -9.785,-2.65 ; -10.535,2.65 -9.785,2.65 ; -7.995,-2.65 -7.245,-2.65 ; -7.995,2.65 -7.245,2.65 ; -5.455,-2.65 -4.705,-2.65 ; -5.455,2.65 -4.705,2.65 ; -2.915,-2.65 -2.165,-2.65 ; -2.915,2.65 -2.165,2.65 ; -0.375,-2.65 0.375,-2.65 ; -0.375,2.65 0.375,2.65 ; 2.165,-2.65 2.915,-2.65 ; 2.165,2.65 2.915,2.65 ; 4.705,-2.65 5.455,-2.65 ; 4.705,2.65 5.455,2.65 ; 7.245,-2.65 7.995,-2.65 ; 7.245,2.65 7.995,2.65 ; 9.785,-2.65 10.535,-2.65 ; 9.785,2.65 10.535,2.65 ; 12.325,-2.65 13.075,-2.65 ; 12.325,2.65 13.075,2.65 ; 14.865,-2.65 15.615,-2.65 ; 14.865,2.65 15.615,2.65 ; 17.405,-2.65 18.155,-2.65 ; 17.405,2.65 18.155,2.65 ; 19.945,-2.65 20.695,-2.65 ; 19.945,2.65 20.695,2.65 ; 22.485,-2.65 23.235,-2.65 ; 22.485,2.65 23.235,2.65 ; 25.025,-2.65 25.775,-2.65 ; 25.025,2.65 25.775,2.65 ; 27.565,-2.65 28.315,-2.65 ; 27.565,2.65 28.315,2.65 ; 30.105,-2.65 30.855,-2.65 ; 30.105,2.65 30.855,2.65 ; 32.645,-2.65 33.395,-2.65 ; 32.645,2.65 33.395,2.65 ; 35.185,-2.65 35.935,-2.65 ; 35.185,2.65 35.935,2.65 ; 37.725,-2.65 38.475,-2.65 ; 37.725,2.65 38.475,2.65 ; 40.265,-2.65 40.75,-2.65 40.75,2.65 40.265,2.65
Top Assembly:
  lines w0.254: -39.87,2.54 -39.37,1.833 -38.87,2.54 ; -40.64,-2.54 40.64,-2.54 40.64,2.54 -40.64,2.54 -40.64,-2.54
  text "'.Designator'" at -4.047,-2.68 h1
Top Courtyard:
  lines w0.254: -41.14,-4.07 41.14,-4.07 41.14,4.07 -41.14,4.07 -41.14,-4.07
Top Designator:
  text ".Designator" at -7.618,-0.508 h1.52

## Samtec_HLE-132-02-xxx-DV-BE_2x32_P2.54mm_Horizontal [mm]
pads (128):
  rect 1.27x1.68 smd: 1(-39.37,2.72) 2(-39.37,-2.72) 3(-36.83,2.72) 4(-36.83,-2.72) 5(-34.29,2.72) 6(-34.29,-2.72) 7(-31.75,2.72) 8(-31.75,-2.72) 9(-29.21,2.72) 10(-29.21,-2.72) 11(-26.67,2.72) 12(-26.67,-2.72) 13(-24.13,2.72) 14(-24.13,-2.72) 15(-21.59,2.72) 16(-21.59,-2.72) 17(-19.05,2.72) 18(-19.05,-2.72) 19(-16.51,2.72) 20(-16.51,-2.72) 21(-13.97,2.72) 22(-13.97,-2.72) 23(-11.43,2.72) 24(-11.43,-2.72) 25(-8.89,2.72) 26(-8.89,-2.72) 27(-6.35,2.72) 28(-6.35,-2.72) 29(-3.81,2.72) 30(-3.81,-2.72) 31(-1.27,2.72) 32(-1.27,-2.72) 33(1.27,2.72) 34(1.27,-2.72) 35(3.81,2.72) 36(3.81,-2.72) 37(6.35,2.72) 38(6.35,-2.72) 39(8.89,2.72) 40(8.89,-2.72) 41(11.43,2.72) 42(11.43,-2.72) 43(13.97,2.72) 44(13.97,-2.72) 45(16.51,2.72) 46(16.51,-2.72) 47(19.05,2.72) 48(19.05,-2.72) 49(21.59,2.72) 50(21.59,-2.72) 51(24.13,2.72) 52(24.13,-2.72) 53(26.67,2.72) 54(26.67,-2.72) 55(29.21,2.72) 56(29.21,-2.72) 57(31.75,2.72) 58(31.75,-2.72) 59(34.29,2.72) 60(34.29,-2.72) 61(36.83,2.72) 62(36.83,-2.72) 63(39.37,2.72) 64(39.37,-2.72)
  round 0.97 hole 0.97: Un1(-39.37,1.27) Un2(-39.37,-1.27) Un3(-36.83,1.27) Un4(-36.83,-1.27) Un5(-34.29,1.27) Un6(-34.29,-1.27) Un7(-31.75,1.27) Un8(-31.75,-1.27) Un9(-29.21,1.27) Un10(-29.21,-1.27) Un11(-26.67,1.27) Un12(-26.67,-1.27) Un13(-24.13,1.27) Un14(-24.13,-1.27) Un15(-21.59,1.27) Un16(-21.59,-1.27) Un17(-19.05,1.27) Un18(-19.05,-1.27) Un19(-16.51,1.27) Un20(-16.51,-1.27) Un21(-13.97,1.27) Un22(-13.97,-1.27) Un23(-11.43,1.27) Un24(-11.43,-1.27) Un25(-8.89,1.27) Un26(-8.89,-1.27) Un27(-6.35,1.27) Un28(-6.35,-1.27) Un29(-3.81,1.27) Un30(-3.81,-1.27) Un31(-1.27,1.27) Un32(-1.27,-1.27) Un33(1.27,1.27) Un34(1.27,-1.27) Un35(3.81,1.27) Un36(3.81,-1.27) Un37(6.35,1.27) Un38(6.35,-1.27) Un39(8.89,1.27) Un40(8.89,-1.27) Un41(11.43,1.27) Un42(11.43,-1.27) Un43(13.97,1.27) Un44(13.97,-1.27) Un45(16.51,1.27) Un46(16.51,-1.27) Un47(19.05,1.27) Un48(19.05,-1.27) Un49(21.59,1.27) Un50(21.59,-1.27) Un51(24.13,1.27) Un52(24.13,-1.27) Un53(26.67,1.27) Un54(26.67,-1.27) Un55(29.21,1.27) Un56(29.21,-1.27) Un57(31.75,1.27) Un58(31.75,-1.27) Un59(34.29,1.27) Un60(34.29,-1.27) Un61(36.83,1.27) Un62(36.83,-1.27) Un63(39.37,1.27) Un64(39.37,-1.27)
F.SilkS:
  lines w0.254: -40.265,-2.65 -40.75,-2.65 -40.75,2.65 -40.265,2.65 -40.265,3.56 ; -38.475,-2.65 -37.725,-2.65 ; -38.475,2.65 -37.725,2.65 ; -35.935,-2.65 -35.185,-2.65 ; -35.935,2.65 -35.185,2.65 ; -33.395,-2.65 -32.645,-2.65 ; -33.395,2.65 -32.645,2.65 ; -30.855,-2.65 -30.105,-2.65 ; -30.855,2.65 -30.105,2.65 ; -28.315,-2.65 -27.565,-2.65 ; -28.315,2.65 -27.565,2.65 ; -25.775,-2.65 -25.025,-2.65 ; -25.775,2.65 -25.025,2.65 ; -23.235,-2.65 -22.485,-2.65 ; -23.235,2.65 -22.485,2.65 ; -20.695,-2.65 -19.945,-2.65 ; -20.695,2.65 -19.945,2.65 ; -18.155,-2.65 -17.405,-2.65 ; -18.155,2.65 -17.405,2.65 ; -15.615,-2.65 -14.865,-2.65 ; -15.615,2.65 -14.865,2.65 ; -13.075,-2.65 -12.325,-2.65 ; -13.075,2.65 -12.325,2.65 ; -10.535,-2.65 -9.785,-2.65 ; -10.535,2.65 -9.785,2.65 ; -7.995,-2.65 -7.245,-2.65 ; -7.995,2.65 -7.245,2.65 ; -5.455,-2.65 -4.705,-2.65 ; -5.455,2.65 -4.705,2.65 ; -2.915,-2.65 -2.165,-2.65 ; -2.915,2.65 -2.165,2.65 ; -0.375,-2.65 0.375,-2.65 ; -0.375,2.65 0.375,2.65 ; 2.165,-2.65 2.915,-2.65 ; 2.165,2.65 2.915,2.65 ; 4.705,-2.65 5.455,-2.65 ; 4.705,2.65 5.455,2.65 ; 7.245,-2.65 7.995,-2.65 ; 7.245,2.65 7.995,2.65 ; 9.785,-2.65 10.535,-2.65 ; 9.785,2.65 10.535,2.65 ; 12.325,-2.65 13.075,-2.65 ; 12.325,2.65 13.075,2.65 ; 14.865,-2.65 15.615,-2.65 ; 14.865,2.65 15.615,2.65 ; 17.405,-2.65 18.155,-2.65 ; 17.405,2.65 18.155,2.65 ; 19.945,-2.65 20.695,-2.65 ; 19.945,2.65 20.695,2.65 ; 22.485,-2.65 23.235,-2.65 ; 22.485,2.65 23.235,2.65 ; 25.025,-2.65 25.775,-2.65 ; 25.025,2.65 25.775,2.65 ; 27.565,-2.65 28.315,-2.65 ; 27.565,2.65 28.315,2.65 ; 30.105,-2.65 30.855,-2.65 ; 30.105,2.65 30.855,2.65 ; 32.645,-2.65 33.395,-2.65 ; 32.645,2.65 33.395,2.65 ; 35.185,-2.65 35.935,-2.65 ; 35.185,2.65 35.935,2.65 ; 37.725,-2.65 38.475,-2.65 ; 37.725,2.65 38.475,2.65 ; 40.265,-2.65 40.75,-2.65 40.75,2.65 40.265,2.65
Top Assembly:
  lines w0.254: -39.87,2.54 -39.37,1.833 -38.87,2.54 ; -40.64,-2.54 40.64,-2.54 40.64,2.54 -40.64,2.54 -40.64,-2.54
  text "'.Designator'" at -4.047,-2.68 h1
Top Courtyard:
  lines w0.254: -41.14,-4.07 41.14,-4.07 41.14,4.07 -41.14,4.07 -41.14,-4.07
Top Designator:
  text ".Designator" at -7.618,-0.508 h1.52

## Samtec_HLE-132-02-xxx-DV-LC_2x32_P2.54mm_Horizontal [mm]
pads (66):
  rect 1.27x2.29 smd: 1(-39.37,2.525) 2(-39.37,-2.525) 3(-36.83,2.525) 4(-36.83,-2.525) 5(-34.29,2.525) 6(-34.29,-2.525) 7(-31.75,2.525) 8(-31.75,-2.525) 9(-29.21,2.525) 10(-29.21,-2.525) 11(-26.67,2.525) 12(-26.67,-2.525) 13(-24.13,2.525) 14(-24.13,-2.525) 15(-21.59,2.525) 16(-21.59,-2.525) 17(-19.05,2.525) 18(-19.05,-2.525) 19(-16.51,2.525) 20(-16.51,-2.525) 21(-13.97,2.525) 22(-13.97,-2.525) 23(-11.43,2.525) 24(-11.43,-2.525) 25(-8.89,2.525) 26(-8.89,-2.525) 27(-6.35,2.525) 28(-6.35,-2.525) 29(-3.81,2.525) 30(-3.81,-2.525) 31(-1.27,2.525) 32(-1.27,-2.525) 33(1.27,2.525) 34(1.27,-2.525) 35(3.81,2.525) 36(3.81,-2.525) 37(6.35,2.525) 38(6.35,-2.525) 39(8.89,2.525) 40(8.89,-2.525) 41(11.43,2.525) 42(11.43,-2.525) 43(13.97,2.525) 44(13.97,-2.525) 45(16.51,2.525) 46(16.51,-2.525) 47(19.05,2.525) 48(19.05,-2.525) 49(21.59,2.525) 50(21.59,-2.525) 51(24.13,2.525) 52(24.13,-2.525) 53(26.67,2.525) 54(26.67,-2.525) 55(29.21,2.525) 56(29.21,-2.525) 57(31.75,2.525) 58(31.75,-2.525) 59(34.29,2.525) 60(34.29,-2.525) 61(36.83,2.525) 62(36.83,-2.525) 63(39.37,2.525) 64(39.37,-2.525)
  round 1.19 hole 1.19: Un1(-38.1,0) Un2(38.1,0)
F.SilkS:
  lines w0.254: -40.265,-2.65 -40.75,-2.65 -40.75,2.65 -40.265,2.65 -40.265,3.67 ; -38.475,-2.65 -37.725,-2.65 ; -38.475,2.65 -37.725,2.65 ; -35.935,-2.65 -35.185,-2.65 ; -35.935,2.65 -35.185,2.65 ; -33.395,-2.65 -32.645,-2.65 ; -33.395,2.65 -32.645,2.65 ; -30.855,-2.65 -30.105,-2.65 ; -30.855,2.65 -30.105,2.65 ; -28.315,-2.65 -27.565,-2.65 ; -28.315,2.65 -27.565,2.65 ; -25.775,-2.65 -25.025,-2.65 ; -25.775,2.65 -25.025,2.65 ; -23.235,-2.65 -22.485,-2.65 ; -23.235,2.65 -22.485,2.65 ; -20.695,-2.65 -19.945,-2.65 ; -20.695,2.65 -19.945,2.65 ; -18.155,-2.65 -17.405,-2.65 ; -18.155,2.65 -17.405,2.65 ; -15.615,-2.65 -14.865,-2.65 ; -15.615,2.65 -14.865,2.65 ; -13.075,-2.65 -12.325,-2.65 ; -13.075,2.65 -12.325,2.65 ; -10.535,-2.65 -9.785,-2.65 ; -10.535,2.65 -9.785,2.65 ; -7.995,-2.65 -7.245,-2.65 ; -7.995,2.65 -7.245,2.65 ; -5.455,-2.65 -4.705,-2.65 ; -5.455,2.65 -4.705,2.65 ; -2.915,-2.65 -2.165,-2.65 ; -2.915,2.65 -2.165,2.65 ; -0.375,-2.65 0.375,-2.65 ; -0.375,2.65 0.375,2.65 ; 2.165,-2.65 2.915,-2.65 ; 2.165,2.65 2.915,2.65 ; 4.705,-2.65 5.455,-2.65 ; 4.705,2.65 5.455,2.65 ; 7.245,-2.65 7.995,-2.65 ; 7.245,2.65 7.995,2.65 ; 9.785,-2.65 10.535,-2.65 ; 9.785,2.65 10.535,2.65 ; 12.325,-2.65 13.075,-2.65 ; 12.325,2.65 13.075,2.65 ; 14.865,-2.65 15.615,-2.65 ; 14.865,2.65 15.615,2.65 ; 17.405,-2.65 18.155,-2.65 ; 17.405,2.65 18.155,2.65 ; 19.945,-2.65 20.695,-2.65 ; 19.945,2.65 20.695,2.65 ; 22.485,-2.65 23.235,-2.65 ; 22.485,2.65 23.235,2.65 ; 25.025,-2.65 25.775,-2.65 ; 25.025,2.65 25.775,2.65 ; 27.565,-2.65 28.315,-2.65 ; 27.565,2.65 28.315,2.65 ; 30.105,-2.65 30.855,-2.65 ; 30.105,2.65 30.855,2.65 ; 32.645,-2.65 33.395,-2.65 ; 32.645,2.65 33.395,2.65 ; 35.185,-2.65 35.935,-2.65 ; 35.185,2.65 35.935,2.65 ; 37.725,-2.65 38.475,-2.65 ; 37.725,2.65 38.475,2.65 ; 40.265,-2.65 40.75,-2.65 40.75,2.65 40.265,2.65
Top Assembly:
  lines w0.254: -39.87,2.54 -39.37,1.833 -38.87,2.54 ; -40.64,-2.54 40.64,-2.54 40.64,2.54 -40.64,2.54 -40.64,-2.54
  text "'.Designator'" at -4.047,-2.68 h1
Top Courtyard:
  lines w0.254: -41.14,-4.17 41.14,-4.17 41.14,4.17 -41.14,4.17 -41.14,-4.17
Top Designator:
  text ".Designator" at -7.618,-0.508 h1.52

## Samtec_HLE-132-02-xxx-DV_2x32_P2.54mm_Horizontal [mm]
pads (64):
  rect 1.27x2.29 smd: 1(-39.37,2.525) 2(-39.37,-2.525) 3(-36.83,2.525) 4(-36.83,-2.525) 5(-34.29,2.525) 6(-34.29,-2.525) 7(-31.75,2.525) 8(-31.75,-2.525) 9(-29.21,2.525) 10(-29.21,-2.525) 11(-26.67,2.525) 12(-26.67,-2.525) 13(-24.13,2.525) 14(-24.13,-2.525) 15(-21.59,2.525) 16(-21.59,-2.525) 17(-19.05,2.525) 18(-19.05,-2.525) 19(-16.51,2.525) 20(-16.51,-2.525) 21(-13.97,2.525) 22(-13.97,-2.525) 23(-11.43,2.525) 24(-11.43,-2.525) 25(-8.89,2.525) 26(-8.89,-2.525) 27(-6.35,2.525) 28(-6.35,-2.525) 29(-3.81,2.525) 30(-3.81,-2.525) 31(-1.27,2.525) 32(-1.27,-2.525) 33(1.27,2.525) 34(1.27,-2.525) 35(3.81,2.525) 36(3.81,-2.525) 37(6.35,2.525) 38(6.35,-2.525) 39(8.89,2.525) 40(8.89,-2.525) 41(11.43,2.525) 42(11.43,-2.525) 43(13.97,2.525) 44(13.97,-2.525) 45(16.51,2.525) 46(16.51,-2.525) 47(19.05,2.525) 48(19.05,-2.525) 49(21.59,2.525) 50(21.59,-2.525) 51(24.13,2.525) 52(24.13,-2.525) 53(26.67,2.525) 54(26.67,-2.525) 55(29.21,2.525) 56(29.21,-2.525) 57(31.75,2.525) 58(31.75,-2.525) 59(34.29,2.525) 60(34.29,-2.525) 61(36.83,2.525) 62(36.83,-2.525) 63(39.37,2.525) 64(39.37,-2.525)
F.SilkS:
  lines w0.254: -40.265,-2.65 -40.75,-2.65 -40.75,2.65 -40.265,2.65 -40.265,3.67 ; -38.475,-2.65 -37.725,-2.65 ; -38.475,2.65 -37.725,2.65 ; -35.935,-2.65 -35.185,-2.65 ; -35.935,2.65 -35.185,2.65 ; -33.395,-2.65 -32.645,-2.65 ; -33.395,2.65 -32.645,2.65 ; -30.855,-2.65 -30.105,-2.65 ; -30.855,2.65 -30.105,2.65 ; -28.315,-2.65 -27.565,-2.65 ; -28.315,2.65 -27.565,2.65 ; -25.775,-2.65 -25.025,-2.65 ; -25.775,2.65 -25.025,2.65 ; -23.235,-2.65 -22.485,-2.65 ; -23.235,2.65 -22.485,2.65 ; -20.695,-2.65 -19.945,-2.65 ; -20.695,2.65 -19.945,2.65 ; -18.155,-2.65 -17.405,-2.65 ; -18.155,2.65 -17.405,2.65 ; -15.615,-2.65 -14.865,-2.65 ; -15.615,2.65 -14.865,2.65 ; -13.075,-2.65 -12.325,-2.65 ; -13.075,2.65 -12.325,2.65 ; -10.535,-2.65 -9.785,-2.65 ; -10.535,2.65 -9.785,2.65 ; -7.995,-2.65 -7.245,-2.65 ; -7.995,2.65 -7.245,2.65 ; -5.455,-2.65 -4.705,-2.65 ; -5.455,2.65 -4.705,2.65 ; -2.915,-2.65 -2.165,-2.65 ; -2.915,2.65 -2.165,2.65 ; -0.375,-2.65 0.375,-2.65 ; -0.375,2.65 0.375,2.65 ; 2.165,-2.65 2.915,-2.65 ; 2.165,2.65 2.915,2.65 ; 4.705,-2.65 5.455,-2.65 ; 4.705,2.65 5.455,2.65 ; 7.245,-2.65 7.995,-2.65 ; 7.245,2.65 7.995,2.65 ; 9.785,-2.65 10.535,-2.65 ; 9.785,2.65 10.535,2.65 ; 12.325,-2.65 13.075,-2.65 ; 12.325,2.65 13.075,2.65 ; 14.865,-2.65 15.615,-2.65 ; 14.865,2.65 15.615,2.65 ; 17.405,-2.65 18.155,-2.65 ; 17.405,2.65 18.155,2.65 ; 19.945,-2.65 20.695,-2.65 ; 19.945,2.65 20.695,2.65 ; 22.485,-2.65 23.235,-2.65 ; 22.485,2.65 23.235,2.65 ; 25.025,-2.65 25.775,-2.65 ; 25.025,2.65 25.775,2.65 ; 27.565,-2.65 28.315,-2.65 ; 27.565,2.65 28.315,2.65 ; 30.105,-2.65 30.855,-2.65 ; 30.105,2.65 30.855,2.65 ; 32.645,-2.65 33.395,-2.65 ; 32.645,2.65 33.395,2.65 ; 35.185,-2.65 35.935,-2.65 ; 35.185,2.65 35.935,2.65 ; 37.725,-2.65 38.475,-2.65 ; 37.725,2.65 38.475,2.65 ; 40.265,-2.65 40.75,-2.65 40.75,2.65 40.265,2.65
Top Assembly:
  lines w0.254: -39.87,2.54 -39.37,1.833 -38.87,2.54 ; -40.64,-2.54 40.64,-2.54 40.64,2.54 -40.64,2.54 -40.64,-2.54
  text "'.Designator'" at -4.047,-2.68 h1
Top Courtyard:
  lines w0.254: -41.14,-4.17 41.14,-4.17 41.14,4.17 -41.14,4.17 -41.14,-4.17
Top Designator:
  text ".Designator" at -7.618,-0.508 h1.52